# Altium schematic symbol library header_9_tp1_sct.SchLib: 1 symbol
Pins are listed as number, name and electrical type; pins without a type are passive.

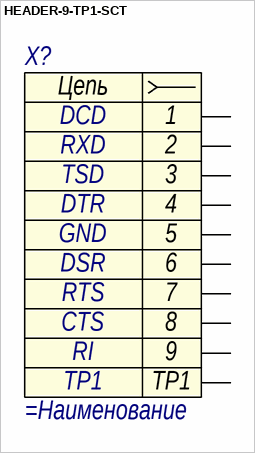
[diagram p0: symbol HEADER-9-TP1-SCT]

## HEADER-9-TP1-SCT
designator X?
=Описание; Contact_1: DCD; Contact_2: RXD; Contact_3: TSD; Contact_4: DTR; Contact_5: GND; Contact_6: DSR; Contact_7: RTS; Contact_8: CTS; Contact_9: RI; TP1: TP1
pins: 1, 2, 3, 4, 5, 6, 7, 8, 9, TP1
text: Цепь